# EAGLE library part DS3231M (library Mikes-Stuff)
I2C Real Time Clock with internal crystal oscillator
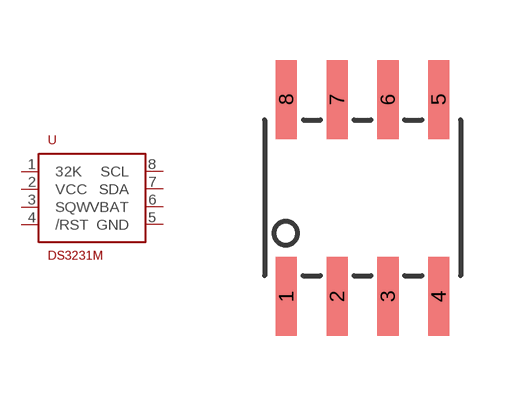
[diagram p22: symbol with the pads of SOIC-8; footprint SOIC-8]

Designator prefix -

## DS3231MSOIC-8  [SOIC-8]
1  32K
2  VCC
3  SQW
4  /RST
5  GND
6  VBAT
7  SDA
8  SCL

## Footprint SOIC-8 (pad centres in mm)
smd 0.53 x 1.98: 1 -1.905,-2.465; 2 -0.635,-2.465; 3 0.635,-2.465; 4 1.905,-2.465; 5 1.905,2.465; 6 0.635,2.465; 7 -0.635,2.465; 8 -1.905,2.465